# EAGLE library part LM5088 (library Klick_custom_lm5088)
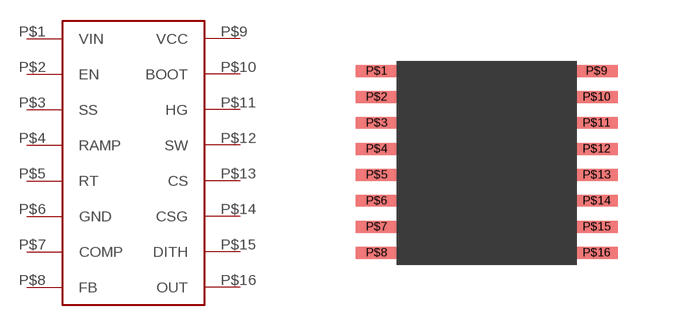
[diagram p0: symbol with the pads of LM5088; footprint LM5088]

Designator prefix -

## LM5088  [LM5088]
P$1  VIN
P$2  EN
P$3  SS
P$4  RAMP
P$5  RT
P$6  GND
P$7  COMP
P$8  FB
P$9  VCC
P$10  BOOT
P$11  HG
P$12  SW
P$13  CS
P$14  CSG
P$15  DITH
P$16  OUT

## Footprint LM5088 (pad centres in mm)
smd 1.05 x 0.3: P$1 -2.75,2.3; P$2 -2.75,1.65; P$3 -2.75,1; P$4 -2.75,0.35; P$5 -2.75,-0.3; P$6 -2.75,-0.95; P$7 -2.75,-1.6; P$8 -2.75,-2.25; P$9 2.75,2.3; P$10 2.75,1.65; P$11 2.75,1; P$12 2.75,0.35; P$13 2.75,-0.3; P$14 2.75,-0.95; P$15 2.75,-1.6; P$16 2.75,-2.25